# EAGLE library part SM06B-SRSS-TB (library esbd-connectors)
SM06B-SRSS-TB JST 1.00mm pitch / Disconnectable Crimp Style Connector
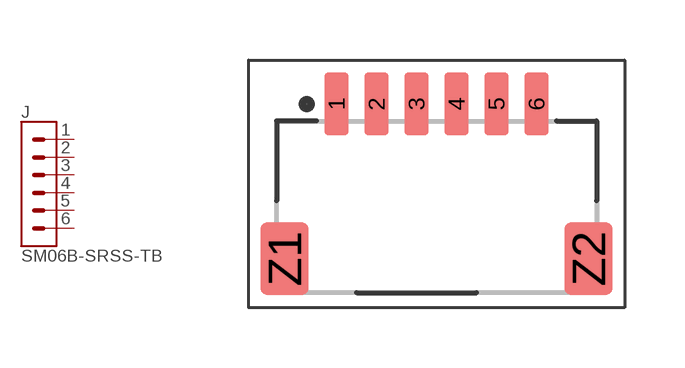
[diagram p17: symbol with the pads of SH-6_RA_1.00MM; footprint SH-6_RA_1.00MM]

Designator prefix J

## SM06B-SRSS-TB  [SH-6_RA_1.00MM]
1  1  pas
2  2  pas
3  3  pas
4  4  pas
5  5  pas
6  6  pas

## Footprint SH-6_RA_1.00MM (pad centres in mm)
https://www.jst-mfg.com/product/pdf/eng/eSH.pdf
smd 0.6 x 1.55: 1 -2.5,2.55; 2 -1.5,2.55; 3 -0.5,2.55; 4 0.5,2.55; 5 1.5,2.55; 6 2.5,2.55
smd 1.2 x 1.8: Z1 -3.8,-1.325; Z2 3.8,-1.325